# EAGLE library part MC9S12A*FU (library micro-motorola)
MC9S12A256 microcontroller unit (MCU) 16-bit HCS12 Core; Upward compatible with M68HC11 instruction set Source: 9S12A128DGV1.pdf; 9S12A256DGV1.pdf
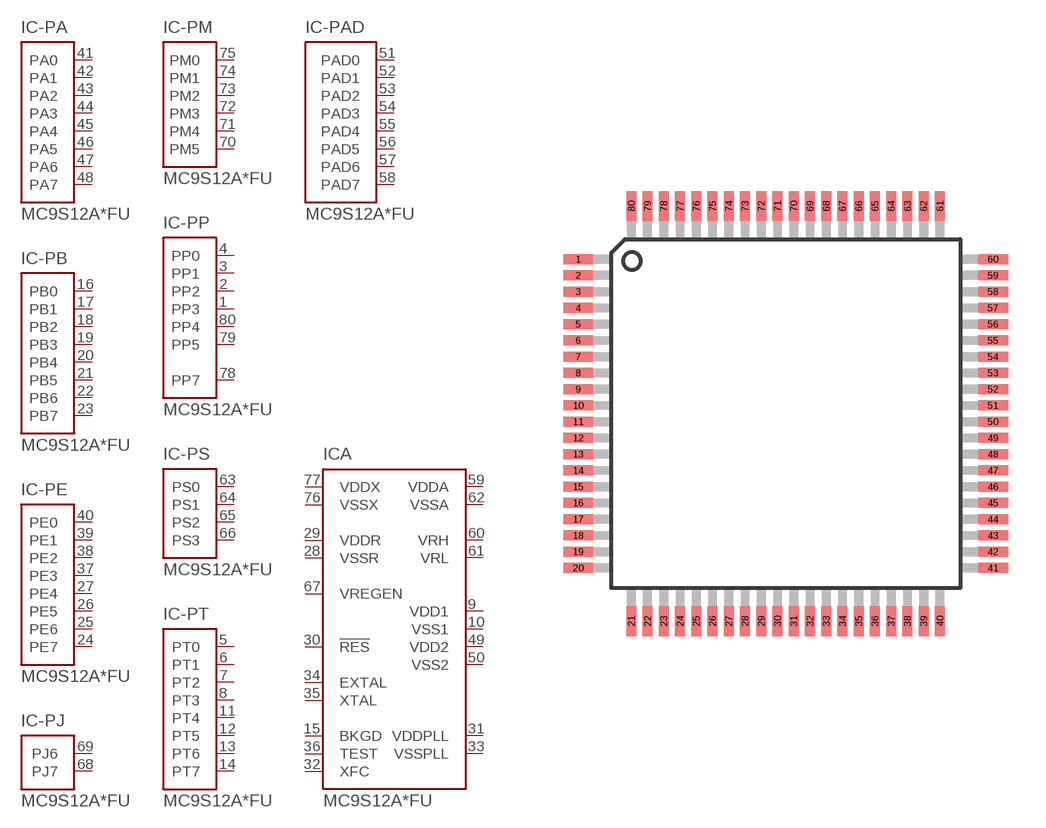
[diagram p78: symbol with the pads of QFP80-841; footprint QFP80-841]

Designator prefix IC; gates -PT=MC9S12-PT -PB=MC9S12-PB -PE=MC9S12-PE A=MC9S12A256 -PM=MC9S12-PM-80 -PS=MC9S12-PS-80 -PAD=MC9S12-PADAN0 -PP=MC9S12-PP-80 -PA=MC9S12-PA -PJ=MC9S12-PJ-80

## MC9S12A128BCFU, MC9S12A256CFU  [QFP80-841]
1  -PP:PP3
2  -PP:PP2
3  -PP:PP1
4  -PP:PP0
5  -PT:PT0
6  -PT:PT1
7  -PT:PT2
8  -PT:PT3
9  A:VDD1  out
10  A:VSS1  out
11  -PT:PT4
12  -PT:PT5
13  -PT:PT6
14  -PT:PT7
15  A:BKGD  oc
16  -PB:PB0
17  -PB:PB1
18  -PB:PB2
19  -PB:PB3
20  -PB:PB4
21  -PB:PB5
22  -PB:PB6
23  -PB:PB7
24  -PE:PE7
25  -PE:PE6
26  -PE:PE5
27  -PE:PE4
28  A:VSSR  pwr
29  A:VDDR  pwr
30  A:!RES
31  A:VDDPLL  out
32  A:XFC
33  A:VSSPLL  out
34  A:EXTAL  in
35  A:XTAL  out
36  A:TEST  in
37  -PE:PE3
38  -PE:PE2
39  -PE:PE1  in
40  -PE:PE0  in
41  -PA:PA0
42  -PA:PA1
43  -PA:PA2
44  -PA:PA3
45  -PA:PA4
46  -PA:PA5
47  -PA:PA6
48  -PA:PA7
49  A:VDD2  out
50  A:VSS2  out
51  -PAD:PAD0
52  -PAD:PAD1
53  -PAD:PAD2
54  -PAD:PAD3
55  -PAD:PAD4
56  -PAD:PAD5
57  -PAD:PAD6
58  -PAD:PAD7
59  A:VDDA  pwr
60  A:VRH  in
61  A:VRL  in
62  A:VSSA  pwr
63  -PS:PS0
64  -PS:PS1
65  -PS:PS2
66  -PS:PS3
67  A:VREGEN  in
68  -PJ:PJ7
69  -PJ:PJ6
70  -PM:PM5
71  -PM:PM4
72  -PM:PM3
73  -PM:PM2
74  -PM:PM1
75  -PM:PM0
76  A:VSSX  pwr
77  A:VDDX  pwr
78  -PP:PP7
79  -PP:PP5
80  -PP:PP4

## Footprint QFP80-841 (pad centres in mm)
80-Pin QFP (Case no. 841B) 9S12A256DGV1.pdf
smd 1.2 x 0.4: 1 -8.3,6.175; 2 -8.3,5.525; 3 -8.3,4.875; 4 -8.3,4.225; 5 -8.3,3.575; 6 -8.3,2.925; 7 -8.3,2.275; 8 -8.3,1.625; 9 -8.3,0.975; 10 -8.3,0.325; 11 -8.3,-0.325; 12 -8.3,-0.975; 13 -8.3,-1.625; 14 -8.3,-2.275; 15 -8.3,-2.925; 16 -8.3,-3.575; 17 -8.3,-4.225; 18 -8.3,-4.875; 19 -8.3,-5.525; 20 -8.3,-6.175; 41 8.3,-6.175; 42 8.3,-5.525; 43 8.3,-4.875; 44 8.3,-4.225; 45 8.3,-3.575; 46 8.3,-2.925; 47 8.3,-2.275; 48 8.3,-1.625; 49 8.3,-0.975; 50 8.3,-0.325; 51 8.3,0.325; 52 8.3,0.975; 53 8.3,1.625; 54 8.3,2.275; 55 8.3,2.925; 56 8.3,3.575; 57 8.3,4.225; 58 8.3,4.875; 59 8.3,5.525; 60 8.3,6.175
smd 0.4 x 1.2: 21 -6.175,-8.3; 22 -5.525,-8.3; 23 -4.875,-8.3; 24 -4.225,-8.3; 25 -3.575,-8.3; 26 -2.925,-8.3; 27 -2.275,-8.3; 28 -1.625,-8.3; 29 -0.975,-8.3; 30 -0.325,-8.3; 31 0.325,-8.3; 32 0.975,-8.3; 33 1.625,-8.3; 34 2.275,-8.3; 35 2.925,-8.3; 36 3.575,-8.3; 37 4.225,-8.3; 38 4.875,-8.3; 39 5.525,-8.3; 40 6.175,-8.3; 61 6.175,8.3; 62 5.525,8.3; 63 4.875,8.3; 64 4.225,8.3; 65 3.575,8.3; 66 2.925,8.3; 67 2.275,8.3; 68 1.625,8.3; 69 0.975,8.3; 70 0.325,8.3; 71 -0.325,8.3; 72 -0.975,8.3; 73 -1.625,8.3; 74 -2.275,8.3; 75 -2.925,8.3; 76 -3.575,8.3; 77 -4.225,8.3; 78 -4.875,8.3; 79 -5.525,8.3; 80 -6.175,8.3